# EAGLE library part ATTINY841 (library scono)
https://www.digikey.com/product-detail/en/microchip-technology/ATTINY841-SSUR/ATTINY841-SSURCT-ND/4437442
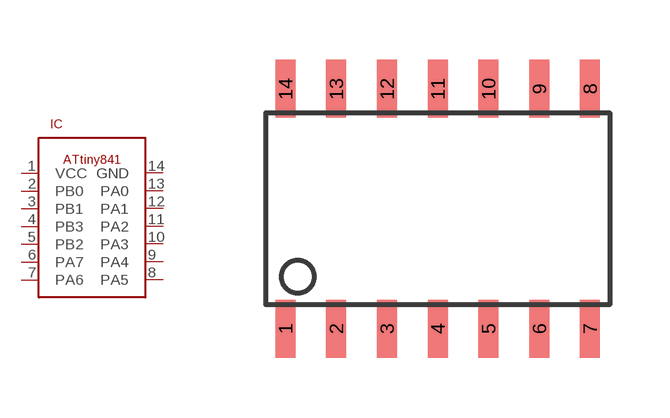
[diagram p39: symbol with the pads of 14SOIC; footprint 14SOIC]

Designator prefix IC

## ATTINY841  [14SOIC]
1  VCC  pwr
2  PB0
3  PB1
4  PB3
5  PB2
6  PA7
7  PA6
8  PA5
9  PA4
10  PA3
11  PA2
12  PA1
13  PA0
14  GND  pwr

## Footprint 14SOIC (pad centres in mm)
smd 0.5 x 1.45: 1 -3.81,-3; 2 -2.54,-3; 3 -1.27,-3; 4 0,-3; 5 1.27,-3; 6 2.54,-3; 7 3.81,-3; 8 3.81,3; 9 2.54,3; 10 1.27,3; 11 0,3; 12 -1.27,3; 13 -2.54,3; 14 -3.81,3